# EAGLE library part ADIS1630* (library ic-AD)
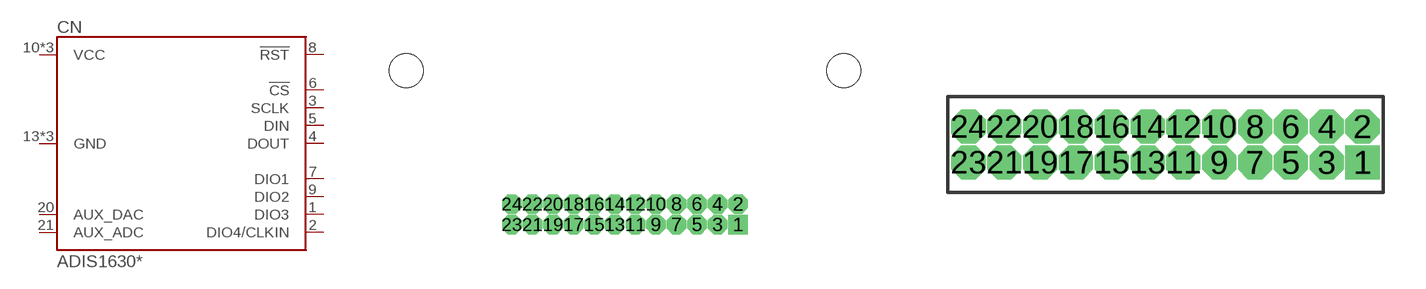
[diagram p4: symbol with the pads of ADIS1630X_REV; footprints ADIS1630X_REV, ADIS1630X_CON]

Designator prefix CN

## ADIS16300REV, ADIS16305REV  [ADIS1630X_REV]
1  DIO3
2  DIO4/CLKIN
3  SCLK
4  DOUT
5  DIN
6  !CS
7  DIO1
8  !RST
9  DIO2
10  VCC
11  VCC
12  VCC
13  GND
14  GND
15  GND
20  AUX_DAC
21  AUX_ADC

## ADIS16300CON, ADIS16305CON  [ADIS1630X_CON]
Pads as for ADIS1630X_REV

## Footprint ADIS1630X_REV (pad centres in mm)
drill 0.7 square: 1 6.985,-9.515
drill 0.7 octagon: 2 6.985,-8.245; 3 5.715,-9.515; 4 5.715,-8.245; 5 4.445,-9.515; 6 4.445,-8.245; 7 3.175,-9.515; 8 3.175,-8.245; 9 1.905,-9.515; 10 1.905,-8.245; 11 0.635,-9.515; 12 0.635,-8.245; 13 -0.635,-9.515; 14 -0.635,-8.245; 15 -1.905,-9.515; 16 -1.905,-8.245; 17 -3.175,-9.515; 18 -3.175,-8.245; 19 -4.445,-9.515; 20 -4.445,-8.245; 21 -5.715,-9.515; 22 -5.715,-8.245; 23 -6.985,-9.515; 24 -6.985,-8.245
hole 2.1 at -13.5,0
hole 2.1 at 13.5,0

## Footprint ADIS1630X_CON (pad centres in mm)
drill 0.7 square: 1 6.985,-0.625
drill 0.7 octagon: 2 6.985,0.645; 3 5.715,-0.625; 4 5.715,0.645; 5 4.445,-0.625; 6 4.445,0.645; 7 3.175,-0.625; 8 3.175,0.645; 9 1.905,-0.625; 10 1.905,0.645; 11 0.635,-0.625; 12 0.635,0.645; 13 -0.635,-0.625; 14 -0.635,0.645; 15 -1.905,-0.625; 16 -1.905,0.645; 17 -3.175,-0.625; 18 -3.175,0.645; 19 -4.445,-0.625; 20 -4.445,0.645; 21 -5.715,-0.625; 22 -5.715,0.645; 23 -6.985,-0.625; 24 -6.985,0.645